# Altium footprint library DE-010824.PcbLib: 122 footprints (part 1 of 8)
Each footprint in its own frame and in the unit in brackets; x right, y up, seen from the top. Pads: shape width x height; smd on the part's side, far side on the other; paste and mask are expansions set on the pad; w line width, h text height; cw(c..) or ccw(c..) is an arc to the next point about the centre after c.
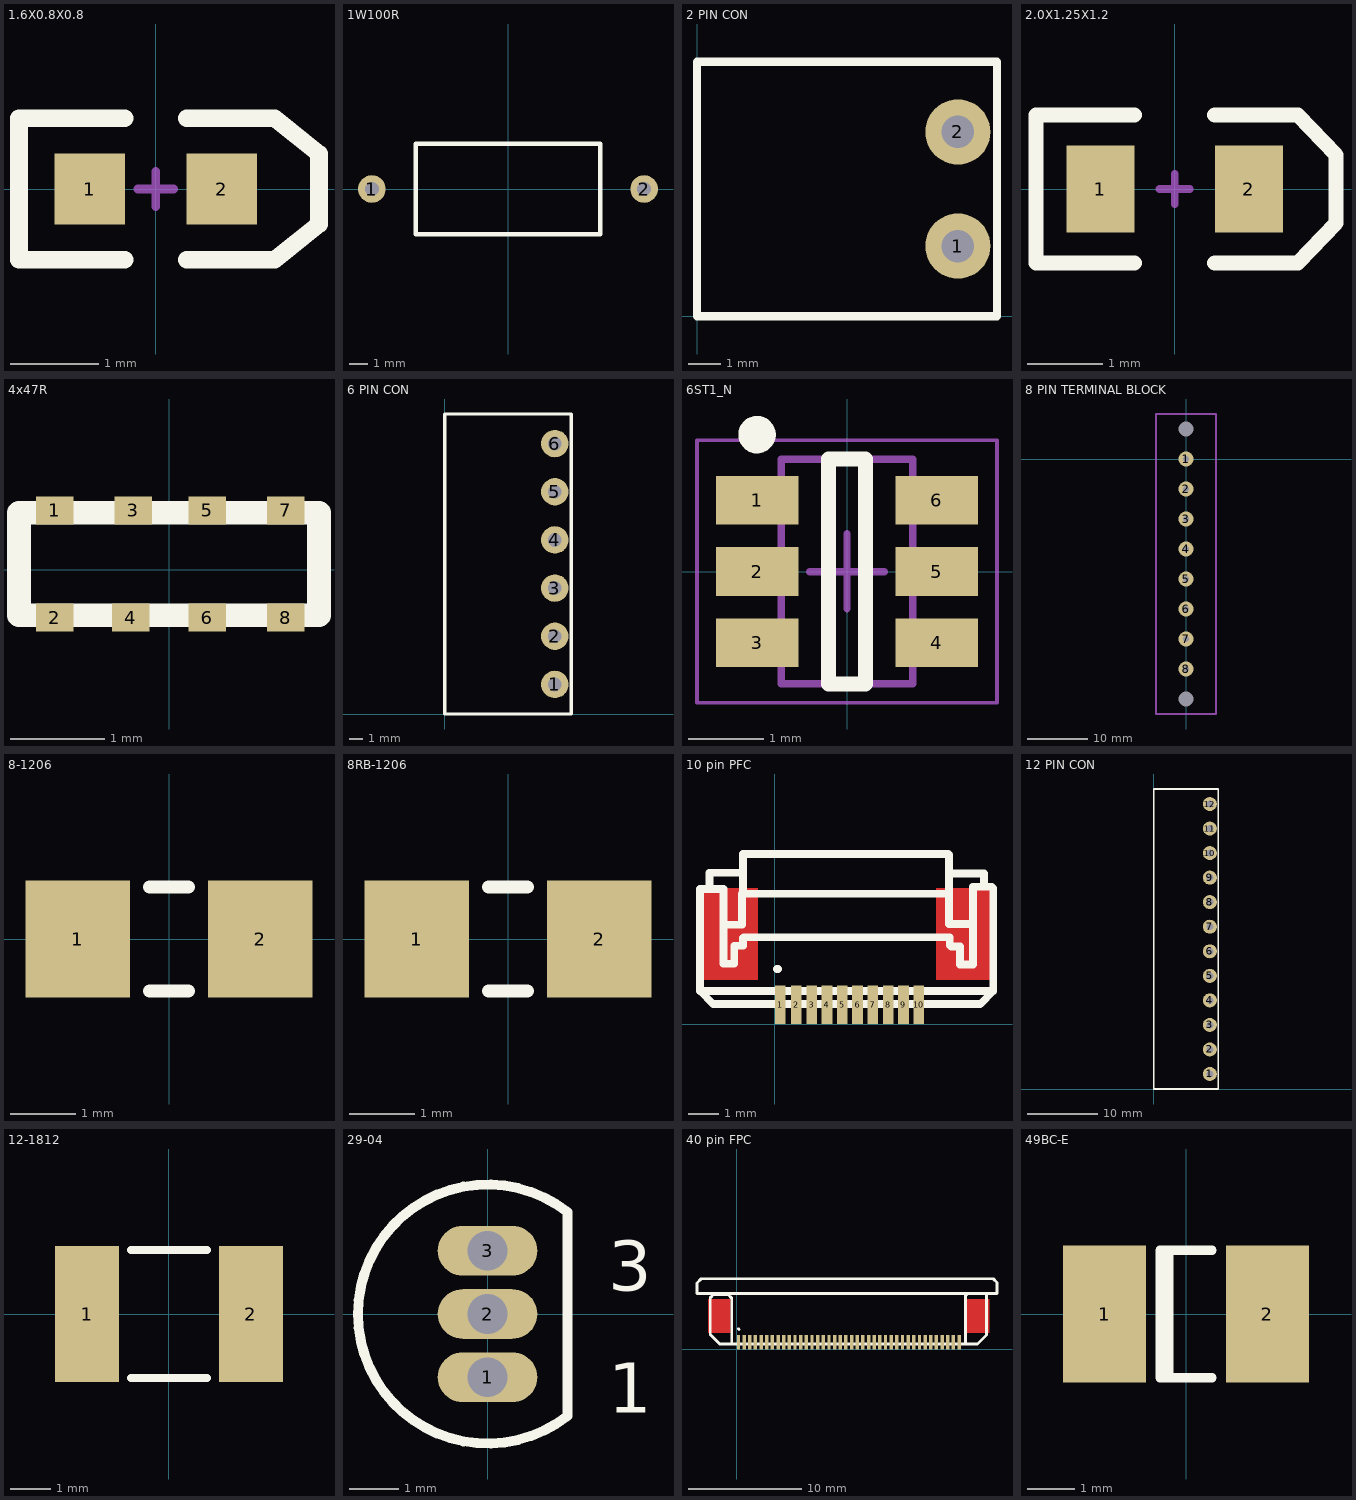
[diagram p0: the footprints below, top view; thin cyan lines are the x and y axes]

## 1.6X0.8X0.8 [mm] "SM LED; 2 Flat Leads"
pads (2):
  rect 0.8x0.8 smd: 1(-0.75,0) 2(0.75,0)
Top Overlay:
  lines w0.2: -0.35,-0.8 -1.55,-0.8 -1.55,0.8 -0.35,0.8 ; 0.35,-0.8 1.35,-0.8 1.85,-0.4 1.85,0.4 1.35,0.8 0.35,0.8
Mechanical 1:
  lines w0.1: -0.2,0 0.2,0 ; 0,-0.2 0,0.2

## 1W100R [mil] "1W 100R resistor"
height 196.85
pads (2):
  round 60 hole 30: 1(-295.28,0) 2(295.28,0)
Top Overlay:
  lines w10: -200,-98.43 -200,98.43 200,98.43 200,-98.43 -200,-98.43

## 2 PIN CON [mm] "2 Pin Pluggable PCB Connector"
height 7.25
pads (2):
  round 2 hole 1: 1(8,2.15) 2(8,5.65)
Top Overlay:
  lines w0.254: 0,0 9.2,0 9.2,7.8 0,7.8 0,0
3D body: height 7.25, standoff 0, extent 0,0 9.144,7.874

## 2.0X1.25X1.2 [mm] "SM LED; 2 Flat Leads"
pads (2):
  rect 0.9x1.15 smd: 1(-0.98,0) 2(0.98,0)
Top Overlay:
  lines w0.2: -0.53,-0.975 -1.83,-0.975 -1.83,0.975 -0.53,0.975 ; 0.53,-0.975 1.63,-0.975 2.13,-0.45 2.13,0.45 1.63,0.975 0.53,0.975
Mechanical 1:
  lines w0.1: -0.2,0 0.2,0 ; 0,-0.2 0,0.2

## 4x47R [mm] "SMD RESISTOR 4 x 47R"
height 1
pads (8):
  rect 0.4x0.3 all layers, no hole: 1(-1.219,0.635) 2(-1.219,-0.508) 3(-0.381,0.635) 4(-0.406,-0.508) 5(0.406,0.635) 6(0.406,-0.508) 7(1.245,0.635) 8(1.245,-0.508)
Top Overlay:
  lines w0.254: -1.6,-0.483 1.6,-0.483 1.6,0.61 -1.6,0.61 -1.6,-0.483

## 6 PIN CON [mm] "8 Pin Pluggable Connector"
height 7.25
pads (6):
  round 2 hole 1: 1(8,2.15) 2(8,5.65) 3(8,9.15) 4(8,12.65) 5(8,16.15) 6(8,19.65)
Top Overlay:
  lines w0.254: 0,0 9.2,0 9.2,21.8 0,21.8 0,0
3D body: height 7.25, standoff 0, extent 0,0 9.144,21.844

## 6ST1_N [mm] "SOT23, 6-Leads, Body 2.9x1.6mm, Pitch 0.95mm, Lead Span 2.8mm, IPC Medium Density"
height 1.45
pads (6):
  rect 1.1x0.65 smd: 1(-1.2,0.95) 2(-1.2,0) 3(-1.2,-0.95) 4(1.2,-0.95) 5(1.2,0) 6(1.2,0.95)
Top Overlay:
  circle w0.25: c-1.2,1.825 r0.125
  lines w0.2: -0.25,-1.5 0.25,-1.5 0.25,1.5 -0.25,1.5 -0.25,-1.5
Mechanical 13:
  lines w0.1: -0.875,-1.5 -0.875,1.5 0.875,1.5 0.875,-1.5 -0.875,-1.5
Mechanical 15:
  lines w0.05: -2,-1.75 -2,1.75 2,1.75 2,-1.75 -2,-1.75
  lines w0.1: -0.5,0 0.5,0 ; 0,-0.5 0,0.5
3D body: height 1.45, standoff 0, extent -0.875,-1.5 0.875,1.5

## 8 PIN TERMINAL BLOCK [mm] "8 pin cable terminal connector"
height 16
pads (10):
  round 2.5 hole 1: 1(0,0) 2(0,-5) 3(0,-10) 4(0,-15) 5(0,-20) 6(0,-25) 7(0,-30) 8(0,-35)
  round 1 hole 2.5: vijak(0,-40) vijak(0,5)
Mechanical 1:
  lines w0.254: -5,-42.5 5,-42.5 5,7.5 -5,7.5 -5,-42.5
3D body: height 16, standoff 1, extent -5,-42.5 5,7.5

## 8-1206 [mm] "Chip Resistor; Body 3.1 x 1.6 mm (LxW typ)"
height 0.7
pads (2):
  rect 1.6x1.8 smd: 1(-1.4,0) 2(1.4,0)
Top Overlay:
  lines w0.2: -0.3,-0.8 0.3,-0.8 ; -0.3,0.8 0.3,0.8

## 8RB-1206 [mm] "Chip Resistor; Body 3.2 x 1.6 mm (LxW typ)"
height 0.7
pads (2):
  rect 1.6x1.8 smd: 1(-1.4,0) 2(1.4,0)
Top Overlay:
  lines w0.2: -0.3,-0.8 0.3,-0.8 ; -0.3,0.8 0.3,0.8

## 10 pin PFC [mm]
pads (10):
  rect 0.35x1.25 smd: 1(0.178,0.635) 2(0.703,0.635) 3(1.203,0.635) 4(1.703,0.635) 5(2.203,0.635) 6(2.703,0.635) 7(3.203,0.635) 8(3.703,0.635) 9(4.203,0.635) 10(4.703,0.635)
Top Layer:
  rectangle: 5.258,1.45 7.258,4.45
  rectangle: -2.54,1.45 -0.54,4.45
Top Overlay:
  lines w0.254: -2.134,4.572 -2.134,4.953 -1.041,4.953 ; -1.549,3.251 -1.067,3.251 -1.067,4.267 5.69,4.267 ; -1.067,4.242 -1.041,4.267 -1.041,4.953 ; 0.076,1.803 0.102,1.803 ; 5.664,5.563 -1.041,5.563 -1.041,4.953 ; 5.69,5.537 5.69,4.928 ; 6.401,3.277 5.69,3.277 5.69,4.267 ; 6.833,4.572 6.833,4.928 5.69,4.928 ; -2.438,1.092 7.137,1.092 ; -2.438,1.092 -2.007,0.66 6.706,0.66 7.137,1.092 ; -2.438,1.092 -2.438,1.118 -2.438,4.42 -1.676,4.42 -1.676,1.981 -1.321,1.981 -1.321,2.565 -1.041,2.565 -1.041,2.819 -1.016,2.845 5.715,2.845 5.715,2.591 5.766,2.54 6.045,2.54 6.045,1.956 6.477,1.956 6.477,4.496 7.087,4.496 7.137,4.445 7.137,1.092 ; 5.69,4.267 5.69,4.928

## 12 PIN CON [mm] "12 Pin Pluggable PCB Connector"
height 7.25
pads (12):
  round 2 hole 1: 1(8,2.15) 2(8,5.65) 3(8,9.15) 4(8,12.65) 5(8,16.15) 6(8,19.65) 7(8,23.15) 8(8,26.65) 9(8,30.15) 10(8,33.65) 11(8,37.15) 12(8,40.65)
Top Overlay:
  lines w0.254: 0,0 9.2,0 9.2,42.8 0,42.8 0,0
3D body: height 7.25, standoff 0, extent 0,0 9.271,42.799

## 12-1812 [mm] "Chip Resistor; Body 4.5 x 3.2 mm (LxW typ)"
height 0.7
pads (2):
  rect 1.6x3.4 smd: 1(-2.05,0) 2(2.05,0)
Top Overlay:
  lines w0.2: -0.95,-1.6 0.95,-1.6 ; -0.95,1.6 0.95,1.6

## 29-04 [mm] "TO, Flat Index; 3 In-Line, Axial Leads; Body Dia. 4.8mm; Leads 0.48 x 0.5 mm (max)"
height 5.33
pads (3):
  oval 2x1 hole 0.8: 1(0,-1.27) 2(0,0) 3(0,1.27)
Top Overlay:
  lines w0.2: 1.601,-2.049 cw(c0,0) 1.601,2.049 ; 1.6,-1.99 1.6,1.99
  text "3" at 2.421,0.467 h1
  text "1" at 2.421,-1.979 h1

## 40 pin FPC [mm]
pads (40):
  rect 0.3x1.25 smd: 1(0.16,0.635) 2(0.66,0.635) 3(1.16,0.635) 4(1.66,0.635) 5(2.16,0.635) 6(2.66,0.635) 7(3.16,0.635) 8(3.66,0.635) 9(4.16,0.635) 10(4.66,0.635) 11(5.16,0.635) 12(5.66,0.635) 13(6.16,0.635) 14(6.66,0.635) 15(7.16,0.635) 16(7.66,0.635) 17(8.16,0.635) 18(8.66,0.635) 19(9.16,0.635) 20(9.66,0.635) 21(10.16,0.635) 22(10.66,0.635) 23(11.16,0.635) 24(11.66,0.635) 25(12.16,0.635) 26(12.66,0.635) 27(13.16,0.635) 28(13.66,0.635) 29(14.16,0.635) 30(14.66,0.635) 31(15.16,0.635) 32(15.66,0.635) 33(16.16,0.635) 34(16.66,0.635) 35(17.16,0.635) 36(17.66,0.635) 37(18.16,0.635) 38(18.66,0.635) 39(19.16,0.635) 40(19.66,0.635)
Top Layer:
  rectangle: -2.54,1.45 -0.54,4.45
  rectangle: 20.352,1.45 22.352,4.45
Top Overlay:
  lines w0.254: -0.432,0.483 -0.432,4.521 -0.762,4.851 -2.057,4.851 -2.337,4.572 -2.337,1.321 -1.499,0.483 21.285,0.483 22.073,1.27 22.073,4.801 21.92,4.953 20.422,4.953 20.218,4.75 20.218,0.483 ; 0.152,1.829 0.152,1.803 0.203,1.753 ; -3.505,4.953 23.012,4.953 23.012,5.918 22.682,6.248 -3.124,6.248 -3.505,5.867 -3.505,4.953

## 49BC-E [mm] "Chip Capacitor; Body 3.81 x 2.54 mm (LxW typ)"
height 1.66
pads (2):
  rect 1.75x2.9 smd: 1(-1.725,0) 2(1.725,0)
Top Overlay:
  lines w0.2: -0.36,-1.35 -0.36,1.35 ; 0.55,-1.35 -0.55,-1.35 -0.55,1.35 0.55,1.35